# Altium schematic symbol library CAP,Cer,10uF,75VDC,X7R,1210.Schlib: 1 symbol
Pins are listed as number, name and electrical type; pins without a type are passive.

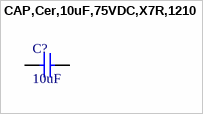
[diagram p0: symbol CAP,Cer,10uF,75VDC,X7R,1210]

## CAP,Cer,10uF,75VDC,X7R,1210
designator C?, comment 10uF
±20% 75V Ceramic Capacitor X7R 1210 (3225 Metric)
pins: 1, 2